# Altium schematic symbol library 1455Q1602BK.SchLib: 1 symbol
Pins are listed as number, name and electrical type; pins without a type are passive.

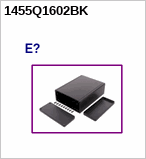
[diagram p0: symbol 1455Q1602BK]

## 1455Q1602BK
designator E?, comment p  (value not drawn)